# EAGLE library part 74*139 (library 74ttl-din)
Dual 2-line to 4-line DECODER/DEMULTIPLEXER
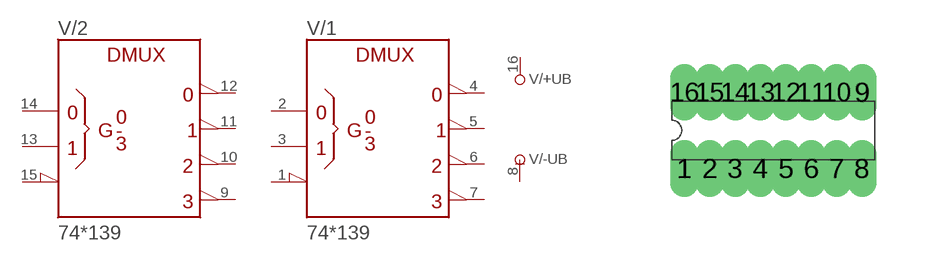
[diagram p39: symbol with the pads of DIL16; footprint DIL16]

Designator prefix V; gates /+UB=+UB /-UB=-UB /1=139 /2=139

## 74139N  [DIL16]
1  /1:!G  in
2  /1:A  in
3  /1:B  in
4  /1:Y0  out
5  /1:Y1  out
6  /1:Y2  out
7  /1:Y3  out
8  /-UB:-UB  pwr
9  /2:Y3  out
10  /2:Y2  out
11  /2:Y1  out
12  /2:Y0  out
13  /2:B  in
14  /2:A  in
15  /2:!G  in
16  /+UB:+UB  pwr

## Footprint DIL16 (pad centres in mm)
Dual In Line Package
drill 0.203 long: 1 -2.223,-0.953; 2 -1.587,-0.953; 3 -0.953,-0.953; 4 -0.318,-0.953; 5 0.318,-0.953; 6 0.953,-0.953; 7 1.587,-0.953; 8 2.223,-0.953; 9 2.223,0.953; 10 1.587,0.953; 11 0.953,0.953; 12 0.318,0.953; 13 -0.318,0.953; 14 -0.953,0.953; 15 -1.587,0.953; 16 -2.223,0.953